# Altium schematic symbol library IC_Logic.SchLib: 7 symbols
Pins are listed as number, name and electrical type; pins without a type are passive.

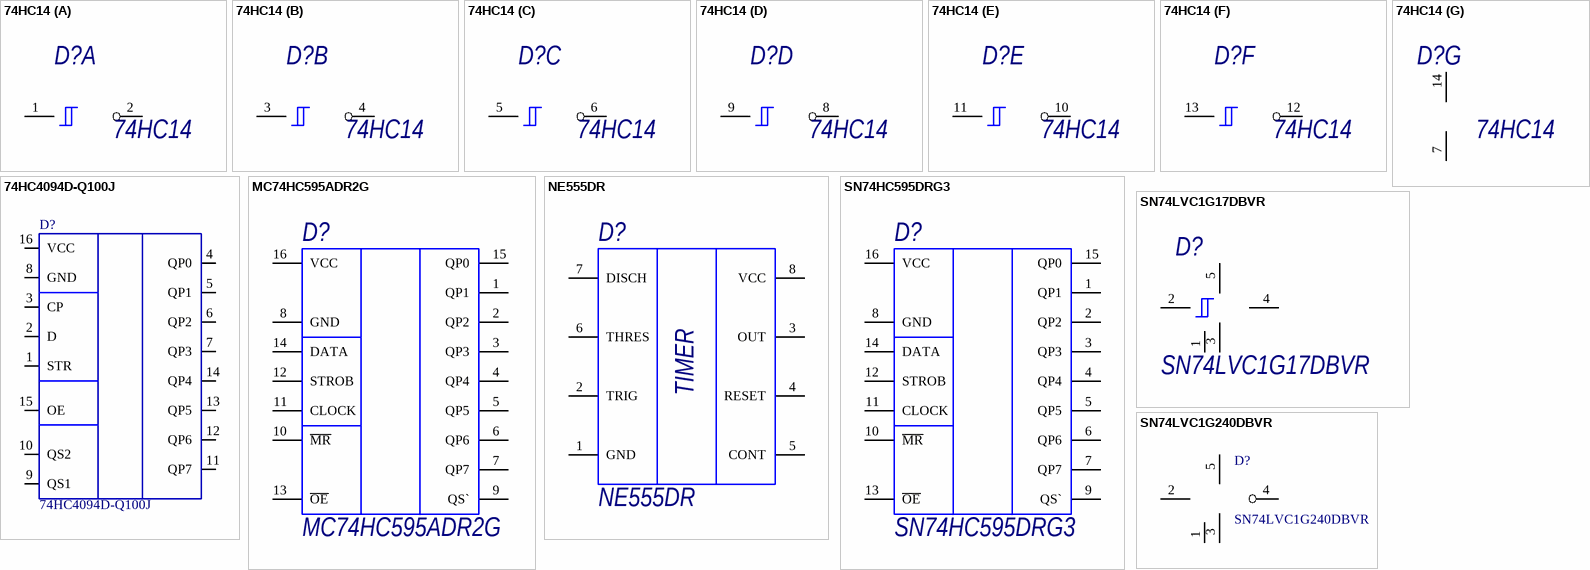
[diagram p0: symbols 74HC14 to SN74LVC1G240DBVR]

## 74HC14
designator D?
Микросхема инвертирующий триггер Шмитта; ComponentDescription: =ComponentTypе+', '+Comment+', '+Package; ComponentTypе: Микросхема инвертирующий триггер Шмитта
footprint 14-SOIC (SOIC, 14-Leads, Body 8,65x3,90mm, Pitch 1,27mm, IPC Medium Density)
part A pins: 1 In, 2 Out
part B pins: 3 In, 4 Out
part C pins: 5 In, 6 Out
part D pins: 8 Out, 9 In
part E pins: 10 Out, 11 In
part F pins: 12 Out, 13 In
part G pins: 7 In, 14 In

## 74HC4094D-Q100J
designator D?
8-stage shift-and-store bus registe; Manufacturer: Nexperia USA; Logic Function: Shift Register; Number of Elements: 1; Number of Bits per Element: 8; ComponentTypе: Микросхема логики; ComponentDescription: =ComponentTypе+', '+Comment+', '+Package; Supplier 1: Digi-Key; Manufacturer Part Number: 74HC4094D-Q100J; RoHS: No; Category: Logic Gates; Stock 1: 2500; Pricing 1: 1=0,51000, 10=0,43300, 25=0,40440, 100=0,32340, 250=0,30032, 500=0,25410, 1000=0,24255 (USD); Mount: Surface Mount; Case/Package: SOIC; Min Operating Temperature: -40°C; Max Operating Temperature: 125°C; Packaging: Tape and Reel; ComponentLink1URL: https://assets.nexperia.com/documents/data-sheet/74HC_HCT4094_Q100.pdf?src-supplier=Digi-Key; ComponentLink1Description: https://assets.nexperia.com/documents/data-sheet/74HC_HCT4094_Q100.pdf?src-supplier=Digi-Key; ComponentType: Logic IC; Supplier Part Number 1: 1727-8403-1-ND
footprint 16-SOIC (SOIC, 16-Leads, Body 9,90x3,90mm, Pitch 1,27mm, IPC Medium Density)
pins: 1 STR, 2 D, 3 CP, 4 QP0, 5 QP1, 6 QP2, 7 QP3, 8 GND, 9 QS1, 10 QS2, 11 QP7, 12 QP6, 13 QP5, 14 QP4, 15 OE, 16 VCC

## MC74HC595ADR2G
designator D?
ON SEMICONDUCTOR - MC74HC595ADR2G - 8 BIT SIPO/SISO SHIFT REGISTER SOIC16; Direction: Unidirectional; Max Supply Voltage: 6V; Min Supply Voltage: 2V; Propagation Delay: 225ns; Number of Elements: 1; Number of Bits: 8; Number of Circuits: 2; Number of Output Lines: 3; Quiescent Current: 4uA; ComponentTypе: Микросхема логики; Supplier 1: Digi-Key; Manufacturer: ON Semiconductor; Manufacturer Part Number: MC74HC595ADR2G; RoHS: Yes; Category: Shift Registers; Stock 1: 32645; Pricing 1: 1=0,50000, 10=0,40700, 25=0,37200, 100=0,27680, 250=0,25084, 500=0,20760, 1000=0,18165 (USD); Mount: Surface Mount; Case/Package: SOIC; Number of Pins: 16; Contact Plating: Tin,Matte; Min Operating Temperature: -55°C; Max Operating Temperature: 125°C; Packaging: Tape and Reel; Logic Function: Shift Register; Package Quantity: 2500; Number of Bits per Element: 8; Turn-On Delay Time: 225ns; Number of Input Lines: 3; Number of Inputs: 8; Length: 10mm; Width: 4mm; Height: 1.5mm; Radiation Hardening: No; Lead Free: Lead Free; RoHS Compliant: Yes; REACH SVHC: No SVHC; Halogen Free: Halogen Free; ComponentLink1URL: https://datasheet.ciiva.com/16952/0900766b80dac360-16952673.pdf?src-supplier=Allied+Electronics; ComponentLink1Description: https://datasheet.ciiva.com/16952/0900766b80dac360-16952673.pdf?src-supplier=Allied+Electronics; ComponentLink2URL: https://datasheet.ciiva.com/15093/getdatasheetpartid-110685-15093398.pdf?src-supplier=Verical; ComponentLink2Description: https://datasheet.ciiva.com/15093/getdatasheetpartid-110685-15093398.pdf?src-supplier=Verical; ComponentLink3URL: https://datasheet.ciiva.com/16215/mc74hc595a-d-16215209.pdf?src-supplier=Future+Electronics; ComponentLink3Description: https://datasheet.ciiva.com/16215/mc74hc595a-d-16215209.pdf?src-supplier=Future+Electronics; ComponentLink4URL: https://datasheet.ciiva.com/1886/mc74hc595a-d-1886236.pdf?src-supplier=Digi-Key; ComponentLink4Description: https://datasheet.ciiva.com/1886/mc74hc595a-d-1886236.pdf?src-supplier=Digi-Key; ComponentLink5URL: https://datasheet.ciiva.com/26209/mc74hc595a-d-26209260.pdf?src-supplier=Avnet+Europe; ComponentLink5Description: https://datasheet.ciiva.com/26209/mc74hc595a-d-26209260.pdf?src-supplier=Avnet+Europe; ComponentLink6URL: https://datasheet.ciiva.com/1886/mc74hc595a-d-1886237.pdf?src-supplier=Digi-Key; ComponentLink6Description: https://datasheet.ciiva.com/1886/mc74hc595a-d-1886237.pdf?src-supplier=Digi-Key; ComponentLink7URL: https://datasheet.ciiva.com/1886/mc74hc595a-d-1886238.pdf?src-supplier=Digi-Key; ComponentLink7Description: https://datasheet.ciiva.com/1886/mc74hc595a-d-1886238.pdf?src-supplier=Digi-Key; ComponentLink8URL: https://datasheet.ciiva.com/8252/mc74hc595a-d-8252526.pdf?src-supplier=Avnet; ComponentLink8Description: https://datasheet.ciiva.com/8252/mc74hc595a-d-8252526.pdf?src-supplier=Avnet; ComponentType: Logic IC; Supplier Part Number 1: MC74HC595ADR2GOSCT-ND; ComponentDescription: =ComponentTypе+', '+Comment+', '+Package
footprint 16-SOIC (SOIC, 16-Leads, Body 9,90x3,90mm, Pitch 1,27mm, IPC Medium Density)
pins: 1 QP1, 2 QP2, 3 QP3, 4 QP4, 5 QP5, 6 QP6, 7 QP7, 8 GND, 9 QS`, 10 ~{MR}, 11 CLOCK, 12 STROB, 13 ~{OE}, 14 DATA, 15 QP0, 16 VCC

## NE555DR
designator D?
Микросхема таймер; ComponentDescription: =ComponentTypе+', '+Comment+', '+Package; ComponentTypе: Микросхема таймер
footprint 8-SOIC (SOIC, 8-Leads, Body 4,90x3,90mm, Pitch 1,27mm, IPC Medium Density)
pins: 1 GND, 2 TRIG, 3 OUT, 4 RESET, 5 CONT, 6 THRES, 7 DISCH, 8 VCC
text: TIMER

## SN74HC595DRG3
designator D?
Shift Register Single 8-Bit Serial to Serial/Parallel 16-Pin SOIC T/R; Manufacturer: Texas Instruments; Max Supply Voltage: 6V; Min Supply Voltage: 2V; Operating Supply Voltage: 5V; Propagation Delay: 250ns; Number of Elements: 1; Direction: Unidirectional; Number of Circuits: 8; Output Type: 3-STATE; ComponentTypе: Микросхема логики; ComponentDescription: =ComponentTypе+', '+Comment+', '+Package; Supplier 1: Digi-Key; Manufacturer Part Number: SN74HC595DRG3; RoHS: Yes; Category: Shift Registers; Stock 1: 803; Pricing 1: 1=0,49000, 10=0,42000, 25=0,39200, 100=0,31360, 250=0,29120, 500=0,24640, 1000=0,23520 (USD); Mount: Surface Mount; Case/Package: SOIC; Number of Pins: 16; Min Operating Temperature: -40°C; Max Operating Temperature: 85°C; Packaging: Tape and Reel; Package Quantity: 2500; Logic Function: Shift Register; Number of Bits per Element: 8; Number of Bits: 8; Turn-On Delay Time: 250ns; Series: 74HC; Technology: CMOS; Radiation Hardening: No; Lead Free: Lead Free; RoHS Compliant: Yes; ComponentLink1URL: https://datasheet.ciiva.com/15093/getdatasheetpartid-304338-15093743.pdf?src-supplier=Verical; ComponentLink1Description: https://datasheet.ciiva.com/15093/getdatasheetpartid-304338-15093743.pdf?src-supplier=Verical; ComponentLink2URL: https://datasheet.ciiva.com/6619/sn74hc595-6619159.pdf?src-supplier=Digi-Key; ComponentLink2Description: https://datasheet.ciiva.com/6619/sn74hc595-6619159.pdf?src-supplier=Digi-Key; ComponentLink3URL: https://datasheet.ciiva.com/6619/sn74hc595-6619160.pdf?src-supplier=Digi-Key; ComponentLink3Description: https://datasheet.ciiva.com/6619/sn74hc595-6619160.pdf?src-supplier=Digi-Key; ComponentLink4URL: https://datasheet.ciiva.com/26209/sn74hc595-26209624.pdf?src-supplier=Avnet+Europe; ComponentLink4Description: https://datasheet.ciiva.com/26209/sn74hc595-26209624.pdf?src-supplier=Avnet+Europe; ComponentLink5URL: https://datasheet.ciiva.com/6619/sn74hc595-6619161.pdf?src-supplier=Digi-Key; ComponentLink5Description: https://datasheet.ciiva.com/6619/sn74hc595-6619161.pdf?src-supplier=Digi-Key; ComponentLink6URL: https://datasheet.ciiva.com/14296/sn74hc595-14296559.pdf?src-supplier=Avnet; ComponentLink6Description: https://datasheet.ciiva.com/14296/sn74hc595-14296559.pdf?src-supplier=Avnet; ComponentType: Logic IC; Supplier Part Number 1: 296-31822-1-ND
footprint 16-SOIC (SOIC, 16-Leads, Body 9,90x3,90mm, Pitch 1,27mm, IPC Medium Density)
pins: 1 QP1, 2 QP2, 3 QP3, 4 QP4, 5 QP5, 6 QP6, 7 QP7, 8 GND, 9 QS`, 10 ~{MR}, 11 CLOCK, 12 STROB, 13 ~{OE}, 14 DATA, 15 QP0, 16 VCC

## SN74LVC1G17DBVR
designator D?
Микросхема буферный элемент с триггером Шмитта; ComponentDescription: =ComponentTypе+', '+Comment+', '+Package; ComponentTypе: Микросхема буферный элемент с триггером Шмитта
footprint SOT-23-5 (SOT23, 5-Leads, Body 2,90x2,30mm, Pitch 0,95mm, IPC Medium Density)
pins: 1 EN, 2 In, 3 EN, 4 Out, 5 EN

## SN74LVC1G240DBVR
designator D?
TEXAS INSTRUMENTS - SN74LVC1G240DBVR - INVERTING BUFFER, SOT-23-5, FULL REEL; Min Supply Voltage: 1.65V; Max Supply Voltage: 5.5V; Propagation Delay: 4ns; Logic Function: Buffer,Inverter; Low Level Output Current: 32mA; High Level Output Current: -32mA; Number of Channels: 1; Quiescent Current: 10uA; Turn-On Delay Time: 10ns; Output Type: 3-STATE; ComponentTypе: Микросхема логики; ComponentDescription: =ComponentTypе+', '+Comment+', '+Package; ComponentType: Logic IC; Supplier 1: Digi-Key; Manufacturer: Texas Instruments; Manufacturer Part Number: SN74LVC1G240DBVR; RoHS: Yes; Category: Buffers, Drivers and Transceivers; Stock 1: 14289; Pricing 1: 1=0,35000, 10=0,28200, 25=0,25800, 100=0,19200, 250=0,17400, 500=0,14400, 1000=0,12600 (USD); Mount: Surface Mount; Case/Package: SOT-23; Number of Pins: 5; Min Operating Temperature: -40°C; Max Operating Temperature: 125°C; Polarity: Inverting; Packaging: Tape and Reel; Number of Inputs: 1; Number of Outputs: 1; Package Quantity: 3000; Number of Input Lines: 1; Number of Output Lines: 1; Number of Circuits: 1; Number of Elements: 1; Number of Gates: 1; Number of Bits: 1; Series: 74LVC; Technology: CMOS; Length: 3.05mm; Width: 1.75mm; Height: 1.3mm; Radiation Hardening: No; REACH SVHC: No SVHC; Lead Free: Lead Free; RoHS Compliant: Yes; ComponentLink1URL: https://datasheet.ciiva.com/15094/getdatasheetpartid-39801-15094094.pdf?src-supplier=Verical; ComponentLink1Description: https://datasheet.ciiva.com/15094/getdatasheetpartid-39801-15094094.pdf?src-supplier=Verical; ComponentLink2URL: https://datasheet.ciiva.com/14301/sn74lvc1g240-14301062.pdf?src-supplier=Avnet; ComponentLink2Description: https://datasheet.ciiva.com/14301/sn74lvc1g240-14301062.pdf?src-supplier=Avnet; ComponentLink3URL: https://datasheet.ciiva.com/1864/sn74lvc1g240-1864506.pdf?src-supplier=Digi-Key; ComponentLink3Description: https://datasheet.ciiva.com/1864/sn74lvc1g240-1864506.pdf?src-supplier=Digi-Key; ComponentLink4URL: https://datasheet.ciiva.com/1864/sn74lvc1g240-1864507.pdf?src-supplier=Digi-Key; ComponentLink4Description: https://datasheet.ciiva.com/1864/sn74lvc1g240-1864507.pdf?src-supplier=Digi-Key; ComponentLink5URL: https://datasheet.ciiva.com/1864/sn74lvc1g240-1864508.pdf?src-supplier=Digi-Key; ComponentLink5Description: https://datasheet.ciiva.com/1864/sn74lvc1g240-1864508.pdf?src-supplier=Digi-Key; Supplier Part Number 1: 296-11609-1-ND
footprint SOT-23-5 (SOT23, 5-Leads, Body 2,90x2,30mm, Pitch 0,95mm, IPC Medium Density)
pins: 1 EN, 2 In, 3 EN, 4 Out, 5 EN